# EAGLE library part ME4410A (library ME4410A)
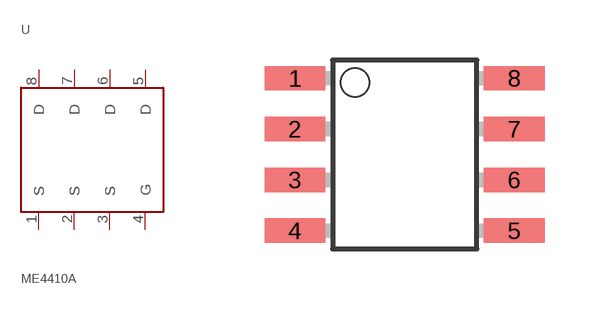
[diagram p0: symbol with the pads of SO-8; footprint SO-8]

Designator prefix -

## ME4410AA  [SO-8]
1  S
2  S
3  S
4  G
5  D
6  D
7  D
8  D

## Footprint SO-8 (pad centres in mm)
SO 8 small outline
smd 1.524 x 0.61: 1 -2.743,1.905; 2 -2.743,0.635; 3 -2.743,-0.635; 4 -2.743,-1.905; 5 2.743,-1.905; 6 2.743,-0.635; 7 2.743,0.635; 8 2.743,1.905